# EAGLE library part MAX14871EUE+T (library 2022-09-22_03-04-56_Library)
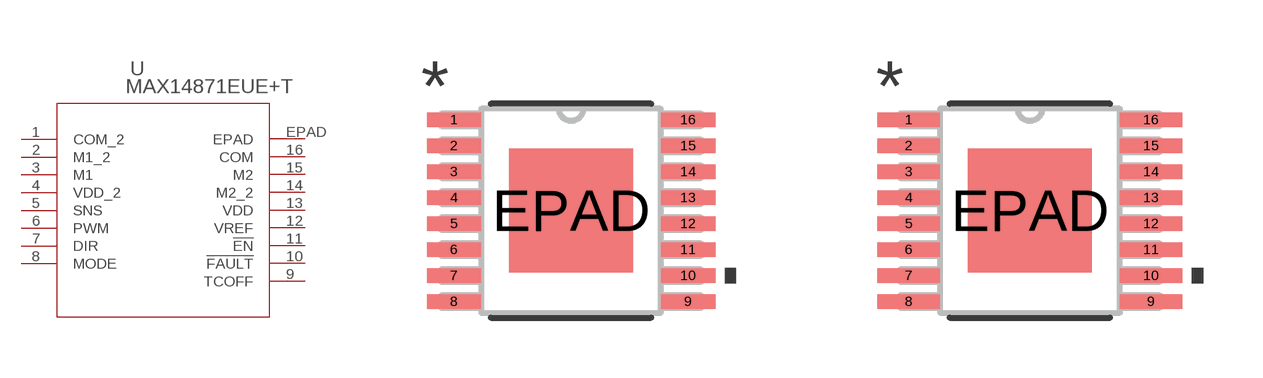
[diagram p0: symbol with the pads of 21-0108_U16E+3_MXM; footprints 21-0108_U16E+3_MXM, 21-0108_U16E+3_MXM-M]

Designator prefix U

## MAX14871EUE+T21-0108_U16E+3_MXM (Copyright: Copyright (C) 2022 Ultra Librarian. All rights reserved.; Manufacturer_Part_Number: MAX14871EUE+T; Mfr_Name: Maxim Integrated Products)  [21-0108_U16E+3_MXM]
1  COM_2  pas
2  M1_2
3  M1
4  VDD_2  pwr
5  SNS  pas
6  PWM  pas
7  DIR  pas
8  MODE  pas
9  TCOFF  pas
10  !FAULT  pas
11  !EN  pas
12  VREF  pwr
13  VDD  pwr
14  M2_2
15  M2
16  COM  pas
EPAD  EPAD  pas

## MAX14871EUE+T21-0108_U16E+3_MXM-M (Copyright: Copyright (C) 2022 Ultra Librarian. All rights reserved.; Manufacturer_Part_Number: MAX14871EUE+T; Mfr_Name: Maxim Integrated Products)  [21-0108_U16E+3_MXM-M]
Pads as for 21-0108_U16E+3_MXM

## MAX14871EUE+T21-0108_U16E+3_MXM-L (Copyright: Copyright (C) 2022 Ultra Librarian. All rights reserved.; Manufacturer_Part_Number: MAX14871EUE+T; Mfr_Name: Maxim Integrated Products)  [21-0108_U16E+3_MXM-L]
Pads as for 21-0108_U16E+3_MXM

## Footprint 21-0108_U16E+3_MXM (pad centres in mm)
smd 1.359 x 0.356: 1 -2.927,2.275; 2 -2.927,1.625; 3 -2.927,0.975; 4 -2.927,0.325; 5 -2.927,-0.325; 6 -2.927,-0.975; 7 -2.927,-1.625; 8 -2.927,-2.275; 9 2.927,-2.275; 10 2.927,-1.625; 11 2.927,-0.975; 12 2.927,-0.325; 13 2.927,0.325; 14 2.927,0.975; 15 2.927,1.625; 16 2.927,2.275
smd 3.099 x 3.099: EPAD 0,0

## Footprint 21-0108_U16E+3_MXM-M (pad centres in mm)
smd 1.562 x 0.356: 1 -3.029,2.275; 2 -3.029,1.625; 3 -3.029,0.975; 4 -3.029,0.325; 5 -3.029,-0.325; 6 -3.029,-0.975; 7 -3.029,-1.625; 8 -3.029,-2.275; 9 3.029,-2.275; 10 3.029,-1.625; 11 3.029,-0.975; 12 3.029,-0.325; 13 3.029,0.325; 14 3.029,0.975; 15 3.029,1.625; 16 3.029,2.275
smd 3.099 x 3.099: EPAD 0,0

## Footprint 21-0108_U16E+3_MXM-L (pad centres in mm)
smd 1.118 x 0.305: 1 -2.845,2.275; 2 -2.845,1.625; 3 -2.845,0.975; 4 -2.845,0.325; 5 -2.845,-0.325; 6 -2.845,-0.975; 7 -2.845,-1.625; 8 -2.845,-2.275; 9 2.845,-2.275; 10 2.845,-1.625; 11 2.845,-0.975; 12 2.845,-0.325; 13 2.845,0.325; 14 2.845,0.975; 15 2.845,1.625; 16 2.845,2.275
smd 3.099 x 3.099: EPAD 0,0